# Altium schematic symbol library TestSchLib.SchLib: 48 symbols
Pins are listed as number, name and electrical type; pins without a type are passive.

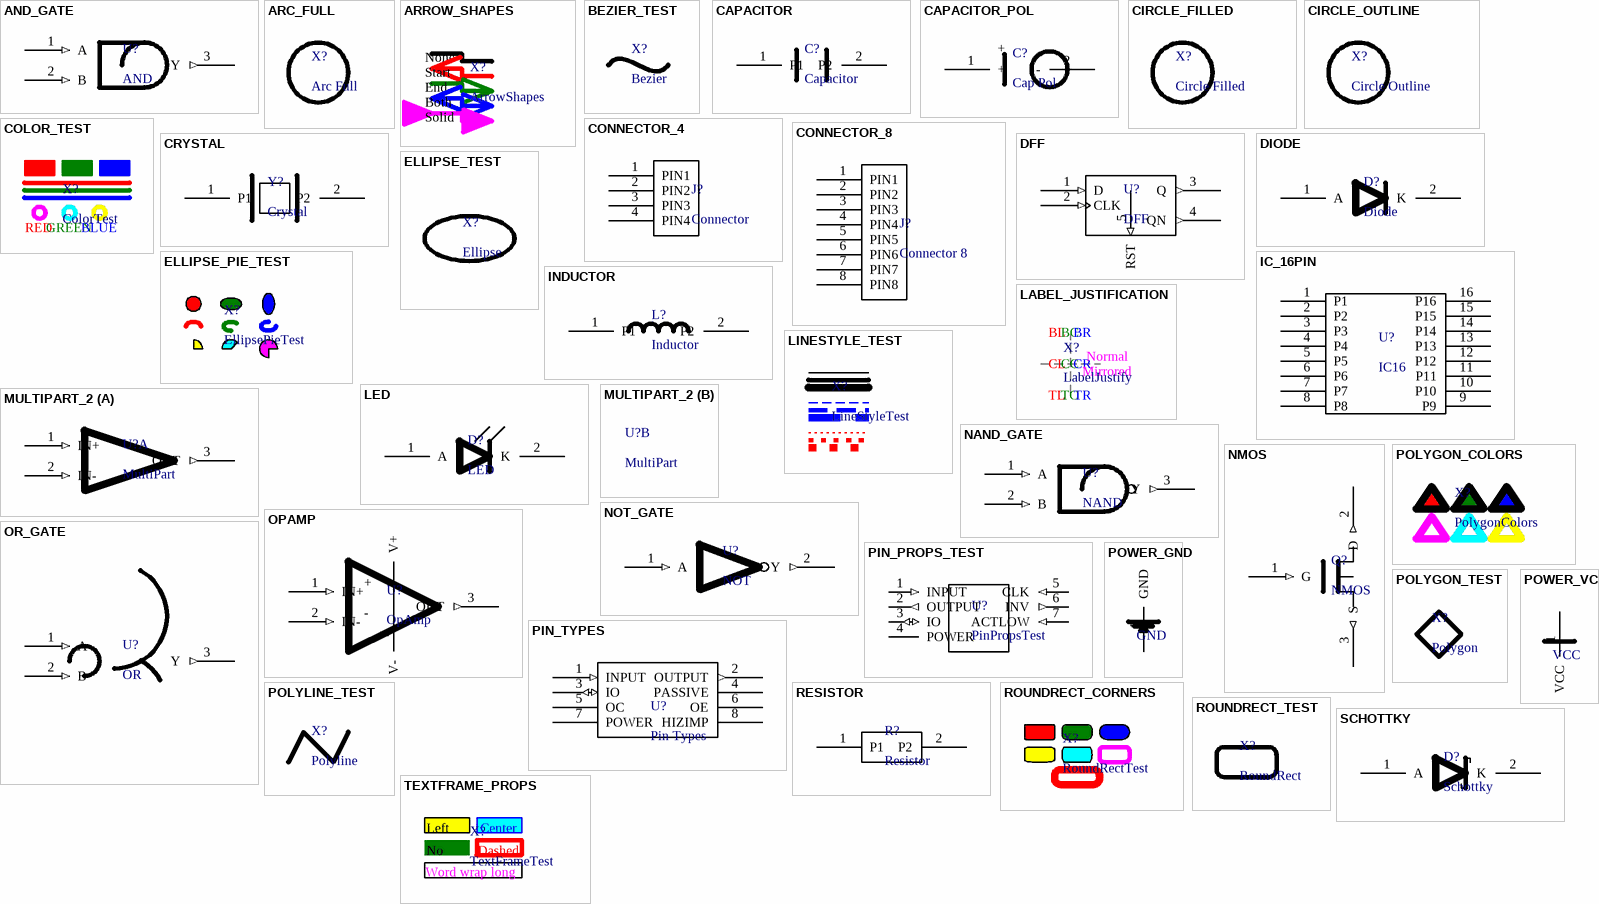
[diagram p0: symbols AND_GATE to TEXTFRAME_PROPS]

## AND_GATE
designator U?, comment AND
2-input AND gate symbol
pins: 1 A (in), 2 B (in), 3 Y (out)

## ARC_FULL
designator X?, comment Arc Full
Full 360 degree arc (circle)

## ARROW_SHAPES
designator X?, comment ArrowShapes
Tests polyline arrow shapes
text: None; Start; End; Both; Solid

## BEZIER_TEST
designator X?, comment Bezier
Bezier curve test

## CAPACITOR
designator C?, comment Capacitor
Basic capacitor symbol
pins: 1 P1, 2 P2

## CAPACITOR_POL
designator C?, comment Cap Pol
Polarized capacitor symbol
pins: 1 +, 2 -

## CIRCLE_FILLED
designator X?, comment Circle Filled
Filled circle using ellipse with equal radii

## CIRCLE_OUTLINE
designator X?, comment Circle Outline
Outline circle using ellipse with equal radii

## COLOR_TEST
designator X?, comment ColorTest
Tests colors on various objects
text: RED; GREEN; BLUE

## CONNECTOR_4
designator J?, comment Connector
4-pin connector symbol
pins: 1 PIN1, 2 PIN2, 3 PIN3, 4 PIN4

## CONNECTOR_8
designator J?, comment Connector 8
8-pin connector symbol
pins: 1 PIN1, 2 PIN2, 3 PIN3, 4 PIN4, 5 PIN5, 6 PIN6, 7 PIN7, 8 PIN8

## CRYSTAL
designator Y?, comment Crystal
Crystal oscillator symbol
pins: 1 P1, 2 P2

## DFF
designator U?
D Flip-Flop symbol
pins: 1 D (in), 2 CLK (in), 3 Q (out), 4 QN (out), 5 RST (in)

## DIODE
designator D?, comment Diode
Standard diode symbol
pins: 1 A, 2 K

## ELLIPSE_PIE_TEST
designator X?, comment EllipsePieTest
Tests ellipses and pie shapes

## ELLIPSE_TEST
designator X?, comment Ellipse
Ellipse with different X and Y radii

## IC_16PIN
designator U?, comment IC16
16-pin generic IC symbol
pins: 1 P1, 2 P2, 3 P3, 4 P4, 5 P5, 6 P6, 7 P7, 8 P8, 9 P9, 10 P10, 11 P11, 12 P12, 13 P13, 14 P14, 15 P15, 16 P16

## INDUCTOR
designator L?, comment Inductor
Basic inductor symbol
pins: 1 P1, 2 P2

## LABEL_JUSTIFICATION
designator X?, comment LabelJustify
Tests label justification and orientation
text: BL; BC; BR; Normal; CL; CC; CR; Mirrored; TL; TC; TR

## LED
designator D?
LED symbol with arrows
pins: 1 A, 2 K

## LINESTYLE_TEST
designator X?, comment LineStyleTest
Tests solid/dashed/dotted line styles

## MULTIPART_2
designator U?, comment MultiPart
Two-part component (e.g., dual op-amp)
part A pins: 1 IN+ (in), 2 IN- (in), 3 OUT (out)

## NAND_GATE
designator U?, comment NAND
NAND gate symbol
pins: 1 A (in), 2 B (in), 3 Y (out)

## NMOS
designator Q?
N-channel MOSFET symbol
pins: 1 G (in), 2 D (out), 3 S (out)

## NOT_GATE
designator U?, comment NOT
Inverter gate symbol
pins: 1 A (in), 2 Y (out)

## OPAMP
designator U?, comment OpAmp
Operational amplifier symbol
pins: 1 IN+ (in), 2 IN- (in), 3 OUT (out), 4 V+ (power), 5 V- (power)
text: +; -

## OR_GATE
designator U?, comment OR
2-input OR gate symbol
pins: 1 A (in), 2 B (in), 3 Y (out)

## PIN_PROPS_TEST
designator U?, comment PinPropsTest
Tests all pin properties
pins: 1 INPUT (in) "Input pin", 2 OUTPUT (out) "Output pin", 3 IO (io) "Bidir pin", 4 POWER (power) "Power pin", 5 CLK (in) "Clock", 6 INV (out) "Inverted", 7 ACTLOW (in) "Active low input", 8 GND (power) hidden to GND "Ground"

## PIN_TYPES
designator U?, comment Pin Types
Component with all pin electrical types
pins: 1 INPUT (in), 2 OUTPUT (out), 3 IO (io), 4 PASSIVE, 5 OC (oc), 6 OE (oe), 7 POWER (power), 8 HIZIMP (hiz)

## POLYGON_COLORS
designator X?, comment PolygonColors
Tests polygon colors

## POLYGON_TEST
designator X?, comment Polygon
Closed polygon (diamond shape)

## POLYLINE_TEST
designator X?, comment Polyline
Open polyline with 4 vertices

## POWER_GND
designator ?, comment GND
Ground power symbol
pins: 1 GND (power)

## POWER_VCC
designator ?, comment VCC
VCC power symbol
pins: 1 VCC (power)

## RESISTOR
designator R?, comment Resistor
Basic 2-pin resistor symbol
pins: 1 P1, 2 P2

## ROUNDRECT_CORNERS
designator X?, comment RoundRectTest
Tests round rectangle corner radii

## ROUNDRECT_TEST
designator X?, comment RoundRect
Rounded rectangle test

## SCHOTTKY
designator D?, comment Schottky
Schottky diode symbol
pins: 1 A, 2 K

## TEXTFRAME_PROPS
designator X?, comment TextFrameTest
Tests text frame properties
text: Left Align; Center Align; No Border; Dashed Border; Word wrap long text example

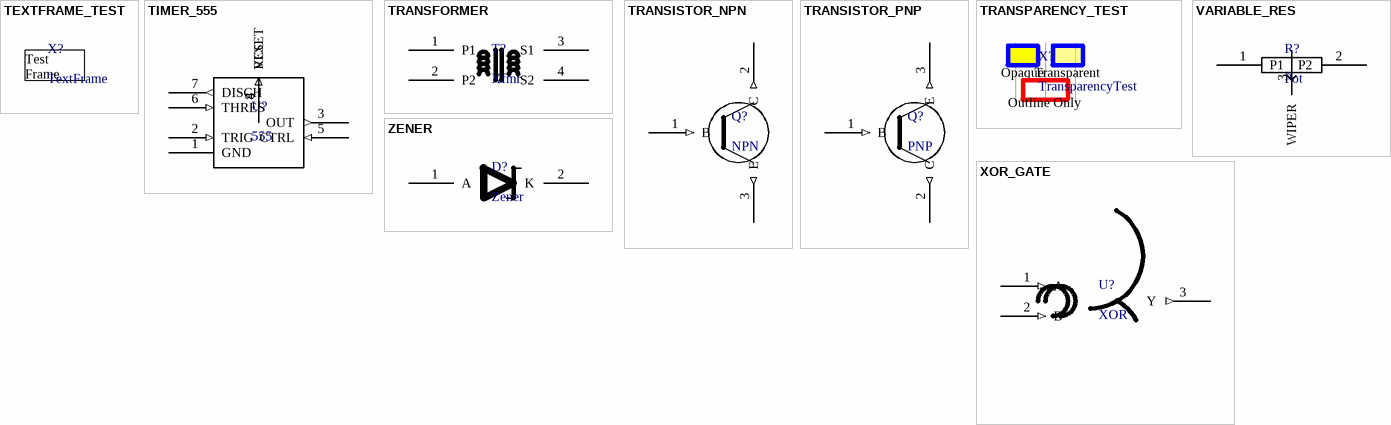
[diagram p1: symbols TEXTFRAME_TEST to ZENER]

## TEXTFRAME_TEST
designator X?, comment TextFrame
Text frame test
text: Test Frame

## TIMER_555
designator U?, comment 555
555 Timer IC symbol
pins: 1 GND (power), 2 TRIG (in), 3 OUT (out), 4 RESET (in), 5 CTRL (in), 6 THRES (in), 7 DISCH (out), 8 VCC (power)

## TRANSFORMER
designator T?, comment Xfmr
Transformer symbol
pins: 1 P1, 2 P2, 3 S1, 4 S2

## TRANSISTOR_NPN
designator Q?, comment NPN
NPN transistor symbol
pins: 1 B (in), 2 C (out), 3 E (out)

## TRANSISTOR_PNP
designator Q?, comment PNP
PNP transistor symbol
pins: 1 B (in), 2 C (out), 3 E (out)

## TRANSPARENCY_TEST
designator X?, comment TransparencyTest
Tests solid vs transparent fills
text: Opaque; Transparent; Outline Only

## VARIABLE_RES
designator R?, comment Pot
Variable resistor/potentiometer symbol
pins: 1 P1, 2 P2, 3 WIPER

## XOR_GATE
designator U?, comment XOR
XOR gate symbol
pins: 1 A (in), 2 B (in), 3 Y (out)

## ZENER
designator D?, comment Zener
Zener diode symbol
pins: 1 A, 2 K